# EAGLE library part ATMEGA128_STAMP (library SmartBike)
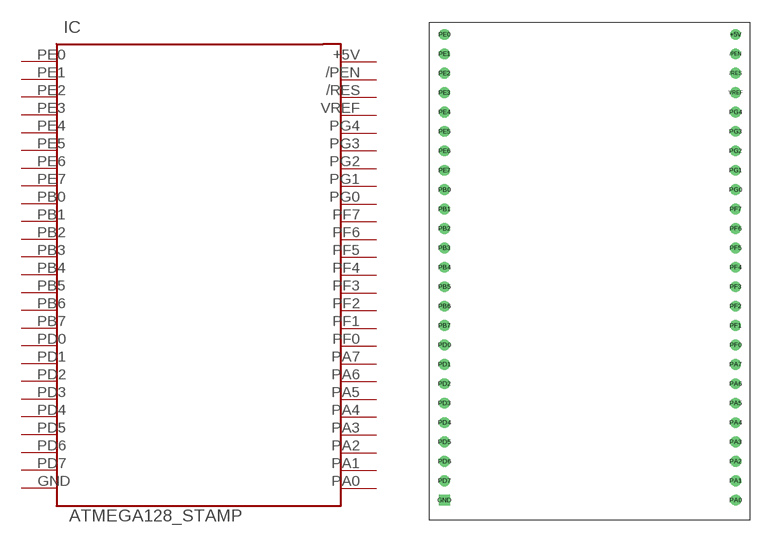
[diagram p1: symbol with the pads of ATMEGA128_STAMP; footprint ATMEGA128_STAMP]

Designator prefix IC

## ATMEGA128_STAMP  [ATMEGA128_STAMP]
+5V  +5V
/PEN  /PEN
/RES  /RES
GND  GND
PA0  PA0
PA1  PA1
PA2  PA2
PA3  PA3
PA4  PA4
PA5  PA5
PA6  PA6
PA7  PA7
PB0  PB0
PB1  PB1
PB2  PB2
PB3  PB3
PB4  PB4
PB5  PB5
PB6  PB6
PB7  PB7
PD0  PD0
PD1  PD1
PD2  PD2
PD3  PD3
PD4  PD4
PD5  PD5
PD6  PD6
PD7  PD7
PE0  PE0
PE1  PE1
PE2  PE2
PE3  PE3
PE4  PE4
PE5  PE5
PE6  PE6
PE7  PE7
PF0  PF0
PF1  PF1
PF2  PF2
PF3  PF3
PF4  PF4
PF5  PF5
PF6  PF6
PF7  PF7
PG0  PG0
PG1  PG1
PG2  PG2
PG3  PG3
PG4  PG4
VREF  VREF

## Footprint ATMEGA128_STAMP (pad centres in mm)
drill 0.9: +5V 45.72,63.5; /PEN 45.72,60.96; /RES 45.72,58.42; PA0 45.726,2.543; PA1 45.726,5.083; PA2 45.726,7.623; PA3 45.726,10.163; PA4 45.72,12.7; PA5 45.72,15.24; PA6 45.72,17.78; PA7 45.72,20.32; PB0 7.62,43.18; PB1 7.62,40.64; PB2 7.62,38.1; PB3 7.62,35.56; PB4 7.62,33.02; PB5 7.62,30.48; PB6 7.62,27.94; PB7 7.62,25.4; PD0 7.62,22.86; PD1 7.62,20.32; PD2 7.62,17.78; PD3 7.62,15.24; PD4 7.623,12.703; PD5 7.626,10.163; PD6 7.626,7.623; PD7 7.626,5.083; PE0 7.62,63.5; PE1 7.62,60.96; PE2 7.62,58.42; PE3 7.62,55.88; PE4 7.62,53.34; PE5 7.62,50.8; PE6 7.62,48.26; PE7 7.62,45.72; PF0 45.72,22.86; PF1 45.72,25.4; PF2 45.72,27.94; PF3 45.72,30.48; PF4 45.72,33.02; PF5 45.72,35.56; PF6 45.72,38.1; PF7 45.72,40.64; PG0 45.72,43.18; PG1 45.72,45.72; PG2 45.72,48.26; PG3 45.72,50.8; PG4 45.72,53.34; VREF 45.72,55.88
drill 0.9 square: GND 7.626,2.543